# Altium footprint library LilyPad-Wearables.PCBLIB: 17 footprints (part 1 of 2)
Each footprint in its own frame and in the unit in brackets; x right, y up, seen from the top. Pads: shape width x height; smd on the part's side, far side on the other; paste and mask are expansions set on the pad; w line width, h text height; cw(c..) or ccw(c..) is an arc to the next point about the centre after c.
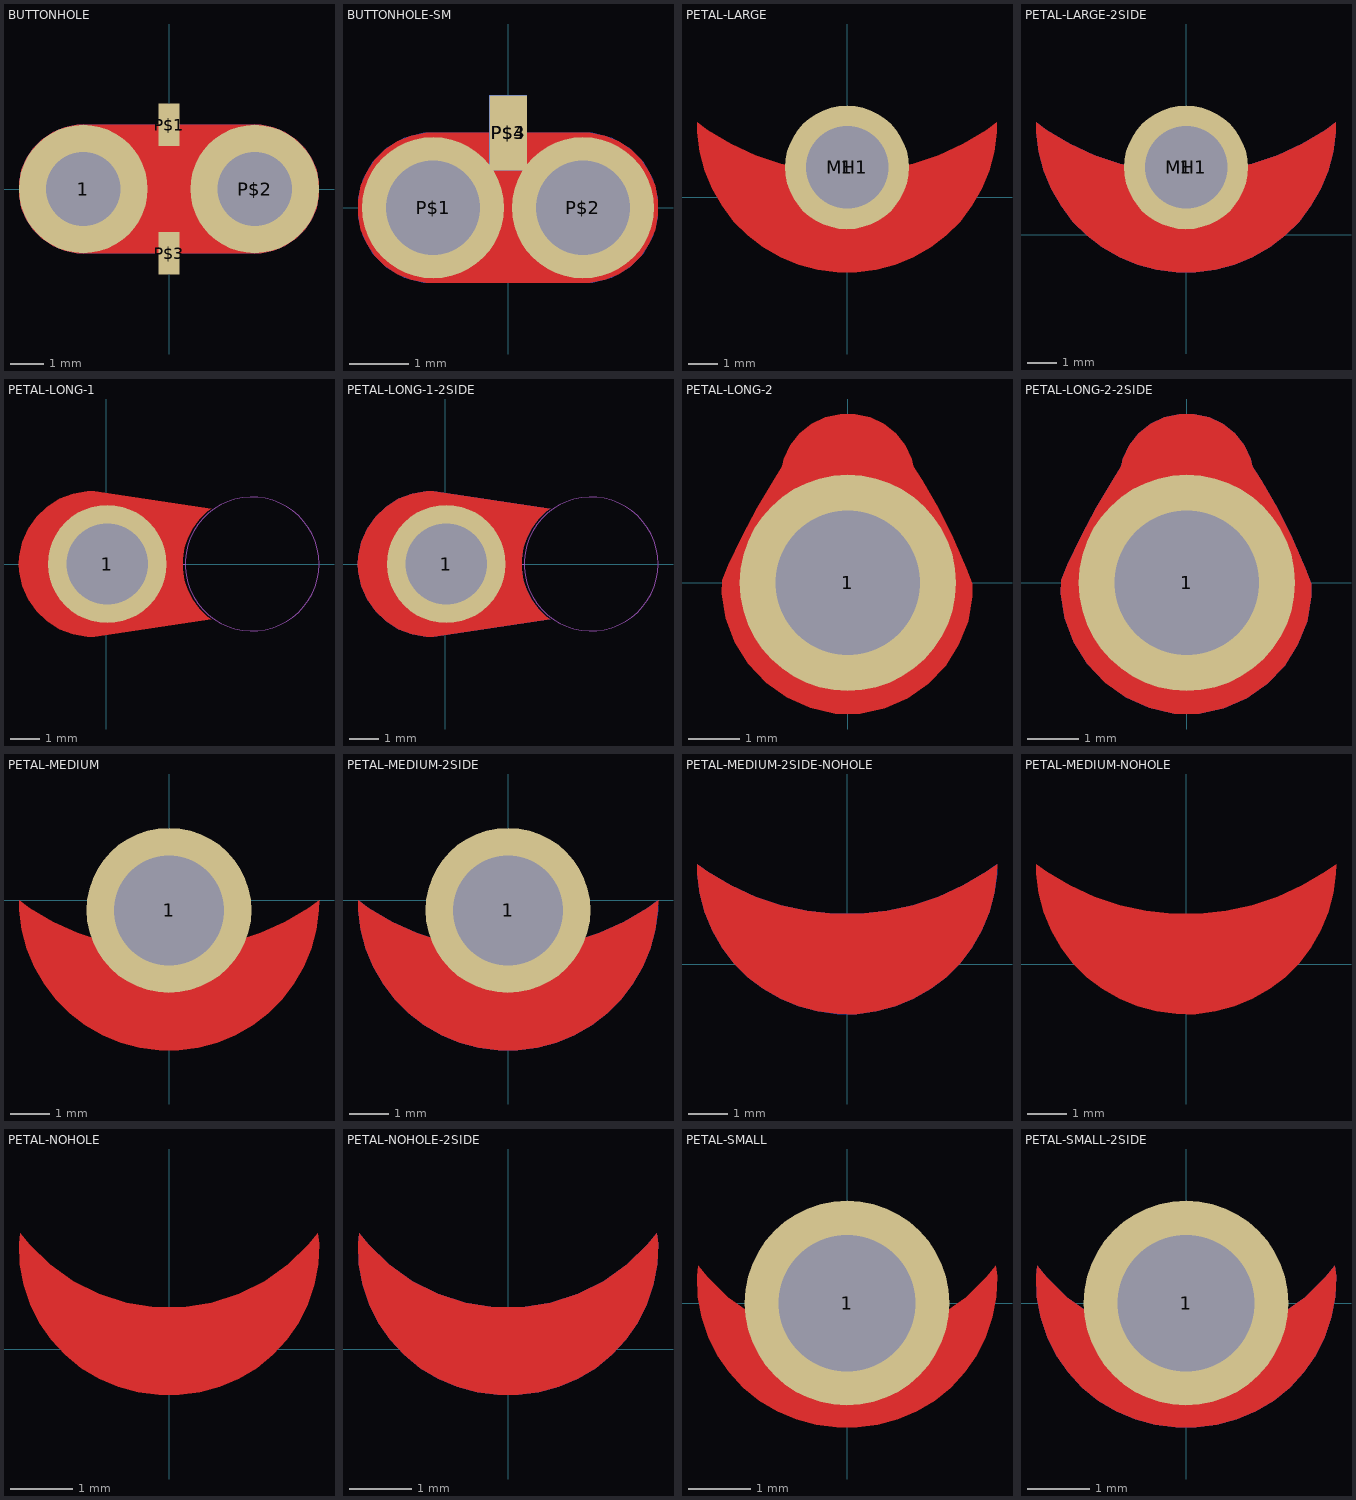
[diagram p0: the footprints below, top view; thin cyan lines are the x and y axes]

## BUTTONHOLE [mil]
pads (4):
  round 150 hole 86.61: 1(-100,0) P$2(100,0)
  rect 25x50 smd: P$1(0,75) P$3(0,-75)
Top:
  region: -100,75 100,75 107.39,75 121.88,72.12 135.53,66.46 147.81,58.26 158.26,47.81 166.46,35.53 172.12,21.88 175,7.39 175,-7.39 172.12,-21.88 166.46,-35.53 158.26,-47.81 147.81,-58.26 135.53,-66.46 121.88,-72.12 107.39,-75 100,-75 -100,-75 -107.39,-75 -121.88,-72.12 -135.53,-66.46 -147.81,-58.26 -158.26,-47.81 -166.46,-35.53 -172.12,-21.88 -175,-7.39 -175,7.39 -172.12,21.88 -166.46,35.53 -158.26,47.81 -147.81,58.26 -135.53,66.46 -121.88,72.12 -107.39,75 -100,75
Top keep-out:
  region: -100,50 -104.92,50 -114.58,48.08 -123.68,44.31 -131.87,38.84 -138.84,31.87 -144.31,23.68 -148.08,14.58 -150,4.92 -150,0 -150,-4.92 -148.08,-14.58 -144.31,-23.68 -138.84,-31.87 -131.87,-38.84 -123.68,-44.31 -114.58,-48.08 -104.92,-50 -100,-50 -95.08,-50 -85.42,-48.08 -76.32,-44.31 -68.13,-38.84 -61.16,-31.87 -55.69,-23.68 -51.92,-14.58 -50,-4.92 -50,0 -50,4.92 -51.92,14.58 -55.69,23.68 -61.16,31.87 -68.13,38.84 -76.32,44.31 -85.42,48.08 -95.08,50 -100,50
  region: 100,50 95.08,50 85.42,48.08 76.32,44.31 68.13,38.84 61.16,31.87 55.69,23.68 51.92,14.58 50,4.92 50,0 50,-4.92 51.92,-14.58 55.69,-23.68 61.16,-31.87 68.13,-38.84 76.32,-44.31 85.42,-48.08 95.08,-50 100,-50 104.92,-50 114.58,-48.08 123.68,-44.31 131.87,-38.84 138.84,-31.87 144.31,-23.68 148.08,-14.58 150,-4.92 150,0 150,4.92 148.08,14.58 144.31,23.68 138.84,31.87 131.87,38.84 123.68,44.31 114.58,48.08 104.92,50 100,50
Bottom:
  region: -100,75 100,75 107.39,75 121.88,72.12 135.53,66.46 147.81,58.26 158.26,47.81 166.46,35.53 172.12,21.88 175,7.39 175,-7.39 172.12,-21.88 166.46,-35.53 158.26,-47.81 147.81,-58.26 135.53,-66.46 121.88,-72.12 107.39,-75 100,-75 -100,-75 -107.39,-75 -121.88,-72.12 -135.53,-66.46 -147.81,-58.26 -158.26,-47.81 -166.46,-35.53 -172.12,-21.88 -175,-7.39 -175,7.39 -172.12,21.88 -166.46,35.53 -158.26,47.81 -147.81,58.26 -135.53,66.46 -121.88,72.12 -107.39,75 -100,75
Bottom keep-out:
  region: -100,50 -104.92,50 -114.58,48.08 -123.68,44.31 -131.87,38.84 -138.84,31.87 -144.31,23.68 -148.08,14.58 -150,4.92 -150,0 -150,-4.92 -148.08,-14.58 -144.31,-23.68 -138.84,-31.87 -131.87,-38.84 -123.68,-44.31 -114.58,-48.08 -104.92,-50 -100,-50 -95.08,-50 -85.42,-48.08 -76.32,-44.31 -68.13,-38.84 -61.16,-31.87 -55.69,-23.68 -51.92,-14.58 -50,-4.92 -50,0 -50,4.92 -51.92,14.58 -55.69,23.68 -61.16,31.87 -68.13,38.84 -76.32,44.31 -85.42,48.08 -95.08,50 -100,50
  region: 100,50 95.08,50 85.42,48.08 76.32,44.31 68.13,38.84 61.16,31.87 55.69,23.68 51.92,14.58 50,4.92 50,0 50,-4.92 51.92,-14.58 55.69,-23.68 61.16,-31.87 68.13,-38.84 76.32,-44.31 85.42,-48.08 95.08,-50 100,-50 104.92,-50 114.58,-48.08 123.68,-44.31 131.87,-38.84 138.84,-31.87 144.31,-23.68 148.08,-14.58 150,-4.92 150,0 150,4.92 148.08,14.58 144.31,23.68 138.84,31.87 131.87,38.84 123.68,44.31 114.58,48.08 104.92,50 100,50
Top Solder:
  region: -100,75 100,75 107.39,75 121.88,72.12 135.53,66.46 147.81,58.26 158.26,47.81 166.46,35.53 172.12,21.88 175,7.39 175,-7.39 172.12,-21.88 166.46,-35.53 158.26,-47.81 147.81,-58.26 135.53,-66.46 121.88,-72.12 107.39,-75 100,-75 -100,-75 -107.39,-75 -121.88,-72.12 -135.53,-66.46 -147.81,-58.26 -158.26,-47.81 -166.46,-35.53 -172.12,-21.88 -175,-7.39 -175,7.39 -172.12,21.88 -166.46,35.53 -158.26,47.81 -147.81,58.26 -135.53,66.46 -121.88,72.12 -107.39,75 -100,75
Bottom Solder:
  region: -100,75 100,75 107.39,75 121.88,72.12 135.53,66.46 147.81,58.26 158.26,47.81 166.46,35.53 172.12,21.88 175,7.39 175,-7.39 172.12,-21.88 166.46,-35.53 158.26,-47.81 147.81,-58.26 135.53,-66.46 121.88,-72.12 107.39,-75 100,-75 -100,-75 -107.39,-75 -121.88,-72.12 -135.53,-66.46 -147.81,-58.26 -158.26,-47.81 -166.46,-35.53 -172.12,-21.88 -175,-7.39 -175,7.39 -172.12,21.88 -166.46,35.53 -158.26,47.81 -147.81,58.26 -135.53,66.46 -121.88,72.12 -107.39,75 -100,75

## BUTTONHOLE-SM [mil]
pads (4):
  round 94.48 hole 62.99: P$1(-50,0) P$2(50,0)
  rect 25x50 smd: P$3(0,50)
  rect 25x50 smd far side: P$4(0,50)
Top:
  region: -50,50 50,50 54.92,50 64.58,48.08 73.68,44.31 81.87,38.84 88.84,31.87 94.31,23.68 98.08,14.58 100,4.92 100,0 100,-4.92 98.08,-14.58 94.31,-23.68 88.84,-31.87 81.87,-38.84 73.68,-44.31 64.58,-48.08 54.92,-50 50,-50 -50,-50 -54.92,-50 -64.58,-48.08 -73.68,-44.31 -81.87,-38.84 -88.84,-31.87 -94.31,-23.68 -98.08,-14.58 -100,-4.92 -100,0 -100,4.92 -98.08,14.58 -94.31,23.68 -88.84,31.87 -81.87,38.84 -73.68,44.31 -64.58,48.08 -54.92,50 -50,50
Top keep-out:
  region: -50,30 -52.95,30 -58.75,28.85 -64.21,26.59 -69.12,23.3 -73.3,19.12 -76.59,14.21 -78.85,8.75 -80,2.95 -80,0 -80,-2.95 -78.85,-8.75 -76.59,-14.21 -73.3,-19.12 -69.12,-23.3 -64.21,-26.59 -58.75,-28.85 -52.95,-30 -50,-30 -47.05,-30 -41.25,-28.85 -35.79,-26.59 -30.88,-23.3 -26.7,-19.12 -23.41,-14.21 -21.15,-8.75 -20,-2.95 -20,0 -20,2.95 -21.15,8.75 -23.41,14.21 -26.7,19.12 -30.88,23.3 -35.79,26.59 -41.25,28.85 -47.05,30 -50,30
  region: 50,30 47.05,30 41.25,28.85 35.79,26.59 30.88,23.3 26.7,19.12 23.41,14.21 21.15,8.75 20,2.95 20,0 20,-2.95 21.15,-8.75 23.41,-14.21 26.7,-19.12 30.88,-23.3 35.79,-26.59 41.25,-28.85 47.05,-30 50,-30 52.95,-30 58.75,-28.85 64.21,-26.59 69.12,-23.3 73.3,-19.12 76.59,-14.21 78.85,-8.75 80,-2.95 80,0 80,2.95 78.85,8.75 76.59,14.21 73.3,19.12 69.12,23.3 64.21,26.59 58.75,28.85 52.95,30 50,30
Bottom:
  region: -50,50 50,50 56.58,50 69.3,46.59 80.7,40.01 90.01,30.7 96.59,19.3 100,6.58 100,-6.58 96.59,-19.3 90.01,-30.7 80.7,-40.01 69.3,-46.59 56.58,-50 50,-50 -50,-50 -56.58,-50 -69.3,-46.59 -80.7,-40.01 -90.01,-30.7 -96.59,-19.3 -100,-6.58 -100,6.58 -96.59,19.3 -90.01,30.7 -80.7,40.01 -69.3,46.59 -56.58,50 -50,50
Bottom keep-out:
  region: -50,30 -52.95,30 -58.75,28.85 -64.21,26.59 -69.12,23.3 -73.3,19.12 -76.59,14.21 -78.85,8.75 -80,2.95 -80,0 -80,-2.95 -78.85,-8.75 -76.59,-14.21 -73.3,-19.12 -69.12,-23.3 -64.21,-26.59 -58.75,-28.85 -52.95,-30 -50,-30 -47.05,-30 -41.25,-28.85 -35.79,-26.59 -30.88,-23.3 -26.7,-19.12 -23.41,-14.21 -21.15,-8.75 -20,-2.95 -20,0 -20,2.95 -21.15,8.75 -23.41,14.21 -26.7,19.12 -30.88,23.3 -35.79,26.59 -41.25,28.85 -47.05,30 -50,30
  region: 50,30 47.05,30 41.25,28.85 35.79,26.59 30.88,23.3 26.7,19.12 23.41,14.21 21.15,8.75 20,2.95 20,0 20,-2.95 21.15,-8.75 23.41,-14.21 26.7,-19.12 30.88,-23.3 35.79,-26.59 41.25,-28.85 47.05,-30 50,-30 52.95,-30 58.75,-28.85 64.21,-26.59 69.12,-23.3 73.3,-19.12 76.59,-14.21 78.85,-8.75 80,-2.95 80,0 80,2.95 78.85,8.75 76.59,14.21 73.3,19.12 69.12,23.3 64.21,26.59 58.75,28.85 52.95,30 50,30
Top Solder:
  region: -50,50 50,50 56.58,50 69.3,46.59 80.7,40.01 90.01,30.7 96.59,19.3 100,6.58 100,-6.58 96.59,-19.3 90.01,-30.7 80.7,-40.01 69.3,-46.59 56.58,-50 50,-50 -50,-50 -56.58,-50 -69.3,-46.59 -80.7,-40.01 -90.01,-30.7 -96.59,-19.3 -100,-6.58 -100,6.58 -96.59,19.3 -90.01,30.7 -80.7,40.01 -69.3,46.59 -56.58,50 -50,50
Bottom Solder:
  region: -50,50 50,50 56.58,50 69.3,46.59 80.7,40.01 90.01,30.7 96.59,19.3 100,6.58 100,-6.58 96.59,-19.3 90.01,-30.7 80.7,-40.01 69.3,-46.59 56.58,-50 50,-50 -50,-50 -56.58,-50 -69.3,-46.59 -80.7,-40.01 -90.01,-30.7 -96.59,-19.3 -100,-6.58 -100,6.58 -96.59,19.3 -90.01,30.7 -80.7,40.01 -69.3,46.59 -56.58,50 -50,50

## PETAL-LARGE [mil]
pads (2):
  round 165 hole 110: 1(0,40)
  round 59.06 hole 59.06 unplated: MH1(0,40)
Top:
  region: 0,-100 13.11,-100 39.1,-96.58 64.43,-89.79 88.65,-79.76 111.35,-66.65 132.15,-50.69 150.69,-32.15 166.65,-11.35 179.76,11.35 189.79,35.57 196.58,60.9 200,86.89 200,100 185.42,89.66 154.7,71.41 122.21,56.54 88.31,45.25 53.39,37.64 17.87,33.81 -17.87,33.81 -53.39,37.64 -88.31,45.25 -122.21,56.54 -154.7,71.41 -185.42,89.66 -200,100 -200,86.89 -196.58,60.9 -189.79,35.57 -179.76,11.35 -166.65,-11.35 -150.69,-32.15 -132.15,-50.69 -111.35,-66.65 -88.65,-79.76 -64.43,-89.79 -39.1,-96.58 -13.11,-100 0,-100
  lines w60: 0,-50 0,50
Top Solder:
  region: 0,-100 13.11,-100 39.1,-96.58 64.43,-89.79 88.65,-79.76 111.35,-66.65 132.15,-50.69 150.69,-32.15 166.65,-11.35 179.76,11.35 189.79,35.57 196.58,60.9 200,86.89 200,100 185.42,89.66 154.7,71.41 122.21,56.54 88.31,45.25 53.39,37.64 17.87,33.81 -17.87,33.81 -53.39,37.64 -88.31,45.25 -122.21,56.54 -154.7,71.41 -185.42,89.66 -200,100 -200,86.89 -196.58,60.9 -189.79,35.57 -179.76,11.35 -166.65,-11.35 -150.69,-32.15 -132.15,-50.69 -111.35,-66.65 -88.65,-79.76 -64.43,-89.79 -39.1,-96.58 -13.11,-100 0,-100

## PETAL-LARGE-2SIDE [mil]
pads (2):
  round 165 hole 110: 1(0,90)
  round 59.06 hole 59.06 unplated: MH1(0,90)
Top:
  region: 0,-50 13.11,-50 39.1,-46.58 64.43,-39.79 88.65,-29.76 111.35,-16.65 132.15,-0.69 150.69,17.85 166.65,38.65 179.76,61.35 189.79,85.57 196.58,110.9 200,136.89 200,150 185.42,139.66 154.7,121.41 122.21,106.54 88.31,95.25 53.39,87.64 17.87,83.81 -17.87,83.81 -53.39,87.64 -88.31,95.25 -122.21,106.54 -154.7,121.41 -185.42,139.66 -200,150 -200,136.89 -196.58,110.9 -189.79,85.57 -179.76,61.35 -166.65,38.65 -150.69,17.85 -132.15,-0.69 -111.35,-16.65 -88.65,-29.76 -64.43,-39.79 -39.1,-46.58 -13.11,-50 0,-50
  lines w60: 0,0 0,100
Bottom:
  region: 0,-50 -13.11,-50 -39.1,-46.58 -64.43,-39.79 -88.65,-29.76 -111.35,-16.65 -132.15,-0.69 -150.69,17.85 -166.65,38.65 -179.76,61.35 -189.79,85.57 -196.58,110.9 -200,136.89 -200,150 -185.42,139.66 -154.7,121.41 -122.21,106.54 -88.31,95.25 -53.39,87.64 -17.87,83.81 17.87,83.81 53.39,87.64 88.31,95.25 122.21,106.54 154.7,121.41 185.42,139.66 200,150 200,136.89 196.58,110.9 189.79,85.57 179.76,61.35 166.65,38.65 150.69,17.85 132.15,-0.69 111.35,-16.65 88.65,-29.76 64.43,-39.79 39.1,-46.58 13.11,-50 0,-50
Top Solder:
  region: 0,-50 13.11,-50 39.1,-46.58 64.43,-39.79 88.65,-29.76 111.35,-16.65 132.15,-0.69 150.69,17.85 166.65,38.65 179.76,61.35 189.79,85.57 196.58,110.9 200,136.89 200,150 185.42,139.66 154.7,121.41 122.21,106.54 88.31,95.25 53.39,87.64 17.87,83.81 -17.87,83.81 -53.39,87.64 -88.31,95.25 -122.21,106.54 -154.7,121.41 -185.42,139.66 -200,150 -200,136.89 -196.58,110.9 -189.79,85.57 -179.76,61.35 -166.65,38.65 -150.69,17.85 -132.15,-0.69 -111.35,-16.65 -88.65,-29.76 -64.43,-39.79 -39.1,-46.58 -13.11,-50 0,-50
Bottom Solder:
  region: 0,-50 -13.11,-50 -39.1,-46.58 -64.43,-39.79 -88.65,-29.76 -111.35,-16.65 -132.15,-0.69 -150.69,17.85 -166.65,38.65 -179.76,61.35 -189.79,85.57 -196.58,110.9 -200,136.89 -200,150 -185.42,139.66 -154.7,121.41 -122.21,106.54 -88.31,95.25 -53.39,87.64 -17.87,83.81 17.87,83.81 53.39,87.64 88.31,95.25 122.21,106.54 154.7,121.41 185.42,139.66 200,150 200,136.89 196.58,110.9 189.79,85.57 179.76,61.35 166.65,38.65 150.69,17.85 132.15,-0.69 111.35,-16.65 88.65,-29.76 64.43,-39.79 39.1,-46.58 13.11,-50 0,-50

## PETAL-LONG-1 [mil]
pads (1):
  round 160 hole 110: 1(1.18,0)
Top:
  region: 141.73,-74.8 135.92,-70.38 125.44,-60.21 116.71,-48.51 109.97,-35.56 105.37,-21.71 103.05,-7.3 103.05,7.3 105.37,21.71 109.97,35.56 116.71,48.51 125.44,60.21 135.92,70.38 141.73,74.8 -15.75,98.43 -25.64,98.62 -45.11,95.14 -63.53,87.93 -80.19,77.27 -94.44,63.56 -105.75,47.33 -113.68,29.21 -117.92,9.89 -118.11,0 -117.92,-9.89 -113.68,-29.21 -105.75,-47.33 -94.44,-63.56 -80.18,-77.27 -63.53,-87.93 -45.11,-95.14 -25.64,-98.62 -15.75,-98.43
Top Solder:
  region: 141.73,-74.8 135.92,-70.38 125.44,-60.21 116.71,-48.51 109.97,-35.56 105.37,-21.71 103.05,-7.3 103.05,7.3 105.37,21.71 109.97,35.56 116.71,48.51 125.44,60.21 135.92,70.38 141.73,74.8 -15.75,98.43 -25.64,98.62 -45.11,95.14 -63.53,87.93 -80.19,77.27 -94.44,63.56 -105.75,47.33 -113.68,29.21 -117.92,9.89 -118.11,0 -117.92,-9.89 -113.68,-29.21 -105.75,-47.33 -94.44,-63.56 -80.18,-77.27 -63.53,-87.93 -45.11,-95.14 -25.64,-98.62 -15.75,-98.43
Reference:
  circle w0.39: c196.85,0 r90.55
  lines w0.39: 0,0 106.3,0

## PETAL-LONG-1-2SIDE [mil]
pads (1):
  round 160 hole 110: 1(1.18,0)
Top:
  region: 141.73,-74.8 135.92,-70.38 125.44,-60.21 116.71,-48.51 109.97,-35.56 105.37,-21.71 103.05,-7.3 103.05,7.3 105.37,21.71 109.97,35.56 116.71,48.51 125.44,60.21 135.92,70.38 141.73,74.8 -15.75,98.43 -25.64,98.62 -45.11,95.14 -63.53,87.93 -80.19,77.27 -94.44,63.56 -105.75,47.33 -113.68,29.21 -117.92,9.89 -118.11,0 -117.92,-9.89 -113.68,-29.21 -105.75,-47.33 -94.44,-63.56 -80.18,-77.27 -63.53,-87.93 -45.11,-95.14 -25.64,-98.62 -15.75,-98.43
Bottom:
  region: 141.73,74.8 135.92,70.38 125.44,60.21 116.71,48.51 109.97,35.56 105.37,21.71 103.05,7.3 103.05,-7.3 105.37,-21.71 109.97,-35.56 116.71,-48.51 125.44,-60.21 135.92,-70.38 141.73,-74.8 -15.75,-98.43 -25.64,-98.62 -45.11,-95.14 -63.53,-87.93 -80.19,-77.27 -94.44,-63.56 -105.75,-47.33 -113.68,-29.21 -117.92,-9.89 -118.11,0 -117.92,9.89 -113.68,29.21 -105.75,47.33 -94.44,63.56 -80.18,77.27 -63.53,87.93 -45.11,95.14 -25.64,98.62 -15.75,98.43
Top Solder:
  region: 141.73,-74.8 135.92,-70.38 125.44,-60.21 116.71,-48.51 109.97,-35.56 105.37,-21.71 103.05,-7.3 103.05,7.3 105.37,21.71 109.97,35.56 116.71,48.51 125.44,60.21 135.92,70.38 141.73,74.8 -15.75,98.43 -25.64,98.62 -45.11,95.14 -63.53,87.93 -80.19,77.27 -94.44,63.56 -105.75,47.33 -113.68,29.21 -117.92,9.89 -118.11,0 -117.92,-9.89 -113.68,-29.21 -105.75,-47.33 -94.44,-63.56 -80.18,-77.27 -63.53,-87.93 -45.11,-95.14 -25.64,-98.62 -15.75,-98.43
Bottom Solder:
  region: 141.73,74.8 135.92,70.38 125.44,60.21 116.71,48.51 109.97,35.56 105.37,21.71 103.05,7.3 103.05,-7.3 105.37,-21.71 109.97,-35.56 116.71,-48.51 125.44,-60.21 135.92,-70.38 141.73,-74.8 -15.75,-98.43 -25.64,-98.62 -45.11,-95.14 -63.53,-87.93 -80.19,-77.27 -94.44,-63.56 -105.75,-47.33 -113.68,-29.21 -117.92,-9.89 -118.11,0 -117.92,9.89 -113.68,29.21 -105.75,47.33 -94.44,63.56 -80.18,77.27 -63.53,87.93 -45.11,95.14 -25.64,98.62 -15.75,98.43
Reference:
  circle w0.39: c196.85,0 r90.55
  lines w0.39: 0,0 106.3,0

## PETAL-LONG-2 [mil]
pads (1):
  round 165 hole 110: 1(0,0)
Top:
  region: -50,88.78 -56.62,78.42 -68.99,57.18 -80.48,35.45 -91.07,13.27 -95.91,1.97 -96.21,-7.77 -92.99,-27.01 -86.08,-45.24 -75.75,-61.78 -62.39,-75.98 -46.52,-87.3 -28.74,-95.31 -9.74,-99.7 0,-100 9.55,-99.78 28.2,-95.62 45.67,-87.9 61.31,-76.92 74.5,-63.1 84.75,-46.97 91.65,-29.16 94.94,-10.34 94.72,-0.79 90.39,10.98 80.44,34.01 69.24,56.46 56.81,78.25 50,88.78 48.73,94.43 43.73,104.87 36.54,113.93 27.5,121.17 17.07,126.2 5.79,128.78 -5.79,128.78 -17.07,126.2 -27.5,121.17 -36.54,113.93 -43.73,104.87 -48.73,94.43 -50,88.78
Top Solder:
  region: -50,88.78 -56.62,78.42 -68.99,57.18 -80.48,35.45 -91.07,13.27 -95.91,1.97 -96.21,-7.77 -92.99,-27.01 -86.08,-45.24 -75.75,-61.78 -62.39,-75.98 -46.52,-87.3 -28.74,-95.31 -9.74,-99.7 0,-100 9.55,-99.78 28.2,-95.62 45.67,-87.9 61.31,-76.92 74.5,-63.1 84.75,-46.97 91.65,-29.16 94.94,-10.34 94.72,-0.79 90.39,10.98 80.44,34.01 69.24,56.46 56.81,78.25 50,88.78 48.73,94.43 43.73,104.87 36.54,113.93 27.5,121.17 17.07,126.2 5.79,128.78 -5.79,128.78 -17.07,126.2 -27.5,121.17 -36.54,113.93 -43.73,104.87 -48.73,94.43 -50,88.78

## PETAL-LONG-2-2SIDE [mil]
pads (1):
  round 165 hole 110: 1(0,0)
Top:
  region: -50,88.78 -56.62,78.42 -68.99,57.18 -80.48,35.45 -91.07,13.27 -95.91,1.97 -96.21,-7.77 -92.99,-27.01 -86.08,-45.24 -75.75,-61.78 -62.39,-75.98 -46.52,-87.3 -28.74,-95.31 -9.74,-99.7 0,-100 9.55,-99.78 28.2,-95.62 45.67,-87.9 61.31,-76.92 74.5,-63.1 84.75,-46.97 91.65,-29.16 94.94,-10.34 94.72,-0.79 90.39,10.98 80.44,34.01 69.24,56.46 56.81,78.25 50,88.78 48.73,94.43 43.73,104.87 36.54,113.93 27.5,121.17 17.07,126.2 5.79,128.78 -5.79,128.78 -17.07,126.2 -27.5,121.17 -36.54,113.93 -43.73,104.87 -48.73,94.43 -50,88.78
Bottom:
  region: 50,88.78 56.81,78.25 69.24,56.46 80.44,34.01 90.39,10.98 94.72,-0.79 94.94,-10.34 91.65,-29.16 84.75,-46.97 74.5,-63.1 61.31,-76.92 45.67,-87.9 28.2,-95.62 9.55,-99.78 0,-100 -9.74,-99.7 -28.74,-95.31 -46.52,-87.3 -62.39,-75.98 -75.75,-61.77 -86.08,-45.24 -92.99,-27.01 -96.21,-7.77 -95.91,1.97 -91.07,13.27 -80.48,35.45 -68.99,57.18 -56.62,78.42 -50,88.78 -48.73,94.43 -43.73,104.87 -36.54,113.93 -27.5,121.17 -17.07,126.2 -5.79,128.78 5.79,128.78 17.07,126.2 27.5,121.17 36.54,113.93 43.73,104.87 48.73,94.43 50,88.78
Top Solder:
  region: -50,88.78 -56.62,78.42 -68.99,57.18 -80.48,35.45 -91.07,13.27 -95.91,1.97 -96.21,-7.77 -92.99,-27.01 -86.08,-45.24 -75.75,-61.78 -62.39,-75.98 -46.52,-87.3 -28.74,-95.31 -9.74,-99.7 0,-100 9.55,-99.78 28.2,-95.62 45.67,-87.9 61.31,-76.92 74.5,-63.1 84.75,-46.97 91.65,-29.16 94.94,-10.34 94.72,-0.79 90.39,10.98 80.44,34.01 69.24,56.46 56.81,78.25 50,88.78 48.73,94.43 43.73,104.87 36.54,113.93 27.5,121.17 17.07,126.2 5.79,128.78 -5.79,128.78 -17.07,126.2 -27.5,121.17 -36.54,113.93 -43.73,104.87 -48.73,94.43 -50,88.78
Bottom Solder:
  region: 50,88.78 56.81,78.25 69.24,56.46 80.44,34.01 90.39,10.98 94.72,-0.79 94.94,-10.34 91.65,-29.16 84.75,-46.97 74.5,-63.1 61.31,-76.92 45.67,-87.9 28.2,-95.62 9.55,-99.78 0,-100 -9.74,-99.7 -28.74,-95.31 -46.52,-87.3 -62.39,-75.98 -75.75,-61.77 -86.08,-45.24 -92.99,-27.01 -96.21,-7.77 -95.91,1.97 -89.4,12.39 -77.03,33.63 -65.54,55.35 -54.95,77.53 -50,88.78 -48.73,94.43 -43.73,104.87 -36.54,113.93 -27.5,121.17 -17.07,126.2 -5.79,128.78 5.79,128.78 17.07,126.2 27.5,121.17 36.54,113.93 43.73,104.87 48.73,94.43 50,88.78

## PETAL-MEDIUM [mil]
pads (1):
  round 165 hole 110: 1(0,-10)
Top:
  region: 0,-150 9.83,-150 29.33,-147.43 48.32,-142.34 66.49,-134.82 83.51,-124.99 99.11,-113.02 113.02,-99.11 124.99,-83.51 134.82,-66.49 142.34,-48.32 147.43,-29.33 150,-9.83 150,0 139.06,-7.75 116.03,-21.44 91.66,-32.59 66.23,-41.07 40.05,-46.77 13.4,-49.64 -13.4,-49.64 -40.05,-46.77 -66.23,-41.07 -91.66,-32.59 -116.03,-21.44 -139.06,-7.75 -150,0 -150,-9.83 -147.43,-29.33 -142.34,-48.32 -134.82,-66.49 -124.99,-83.51 -113.02,-99.11 -99.11,-113.02 -83.51,-124.99 -66.49,-134.82 -48.32,-142.34 -29.33,-147.43 -9.83,-150 0,-150
Top Solder:
  region: 0,-150 9.83,-150 29.33,-147.43 48.32,-142.34 66.49,-134.82 83.51,-124.99 99.11,-113.02 113.02,-99.11 124.99,-83.51 134.82,-66.49 142.34,-48.32 147.43,-29.33 150,-9.83 150,0 139.06,-7.75 116.03,-21.44 91.66,-32.59 66.23,-41.07 40.05,-46.77 13.4,-49.64 -13.4,-49.64 -40.05,-46.77 -66.23,-41.07 -91.66,-32.59 -116.03,-21.44 -139.06,-7.75 -150,0 -150,-9.83 -147.43,-29.33 -142.34,-48.32 -134.82,-66.49 -124.99,-83.51 -113.02,-99.11 -99.11,-113.02 -83.51,-124.99 -66.49,-134.82 -48.32,-142.34 -29.33,-147.43 -9.83,-150 0,-150

## PETAL-MEDIUM-2SIDE [mil]
pads (1):
  round 165 hole 110: 1(0,-10)
Top:
  region: 0,-150 9.83,-150 29.33,-147.43 48.32,-142.34 66.49,-134.82 83.51,-124.99 99.11,-113.02 113.02,-99.11 124.99,-83.51 134.82,-66.49 142.34,-48.32 147.43,-29.33 150,-9.83 150,0 139.06,-7.75 116.03,-21.44 91.66,-32.59 66.23,-41.07 40.05,-46.77 13.4,-49.64 -13.4,-49.64 -40.05,-46.77 -66.23,-41.07 -91.66,-32.59 -116.03,-21.44 -139.06,-7.75 -150,0 -150,-9.83 -147.43,-29.33 -142.34,-48.32 -134.82,-66.49 -124.99,-83.51 -113.02,-99.11 -99.11,-113.02 -83.51,-124.99 -66.49,-134.82 -48.32,-142.34 -29.33,-147.43 -9.83,-150 0,-150
Bottom:
  region: 0,-150 -9.83,-150 -29.33,-147.43 -48.32,-142.34 -66.49,-134.82 -83.51,-124.99 -99.11,-113.02 -113.02,-99.11 -124.99,-83.51 -134.82,-66.49 -142.34,-48.32 -147.43,-29.33 -150,-9.83 -150,0 -139.06,-7.75 -116.03,-21.44 -91.66,-32.59 -66.23,-41.07 -40.05,-46.77 -13.4,-49.64 13.4,-49.64 40.05,-46.77 66.23,-41.07 91.66,-32.59 116.03,-21.44 139.06,-7.75 150,0 150,-9.83 147.43,-29.33 142.34,-48.32 134.82,-66.49 124.99,-83.51 113.02,-99.11 99.11,-113.02 83.51,-124.99 66.49,-134.82 48.32,-142.34 29.33,-147.43 9.83,-150 0,-150
Top Solder:
  region: 0,-150 9.83,-150 29.33,-147.43 48.32,-142.34 66.49,-134.82 83.51,-124.99 99.11,-113.02 113.02,-99.11 124.99,-83.51 134.82,-66.49 142.34,-48.32 147.43,-29.33 150,-9.83 150,0 139.06,-7.75 116.03,-21.44 91.66,-32.59 66.23,-41.07 40.05,-46.77 13.4,-49.64 -13.4,-49.64 -40.05,-46.77 -66.23,-41.07 -91.66,-32.59 -116.03,-21.44 -139.06,-7.75 -150,0 -150,-9.83 -147.43,-29.33 -142.34,-48.32 -134.82,-66.49 -124.99,-83.51 -113.02,-99.11 -99.11,-113.02 -83.51,-124.99 -66.49,-134.82 -48.32,-142.34 -29.33,-147.43 -9.83,-150 0,-150
Bottom Solder:
  region: 0,-150 -9.83,-150 -29.33,-147.43 -48.32,-142.34 -66.49,-134.82 -83.51,-124.99 -99.11,-113.02 -113.02,-99.11 -124.99,-83.51 -134.82,-66.49 -142.34,-48.32 -147.43,-29.33 -150,-9.83 -150,0 -139.06,-7.75 -116.03,-21.44 -91.66,-32.59 -66.23,-41.07 -40.05,-46.77 -13.4,-49.64 13.4,-49.64 40.05,-46.77 66.23,-41.07 91.66,-32.59 116.03,-21.44 139.06,-7.75 150,0 150,-9.83 147.43,-29.33 142.34,-48.32 134.82,-66.49 124.99,-83.51 113.02,-99.11 99.11,-113.02 83.51,-124.99 66.49,-134.82 48.32,-142.34 29.33,-147.43 9.83,-150 0,-150

## PETAL-MEDIUM-2SIDE-NOHOLE [mil]
Top:
  region: 0,-50 9.83,-50 29.33,-47.43 48.32,-42.34 66.49,-34.82 83.51,-24.99 99.11,-13.02 113.02,0.89 124.99,16.49 134.82,33.51 142.34,51.68 147.43,70.67 150,90.17 150,100 139.06,92.25 116.03,78.56 91.66,67.41 66.23,58.93 40.05,53.23 13.4,50.36 -13.4,50.36 -40.05,53.23 -66.23,58.93 -91.66,67.41 -116.03,78.56 -139.06,92.25 -150,100 -150,90.17 -147.43,70.67 -142.34,51.68 -134.82,33.51 -124.99,16.49 -113.02,0.89 -99.11,-13.02 -83.51,-24.99 -66.49,-34.82 -48.32,-42.34 -29.33,-47.43 -9.83,-50 0,-50
Bottom:
  region: 0,-50 -9.83,-50 -29.33,-47.43 -48.32,-42.34 -66.49,-34.82 -83.51,-24.99 -99.11,-13.02 -113.02,0.89 -124.99,16.49 -134.82,33.51 -142.34,51.68 -147.43,70.67 -150,90.17 -150,100 -139.06,92.25 -116.03,78.56 -91.66,67.41 -66.23,58.93 -40.05,53.23 -13.4,50.36 13.4,50.36 40.05,53.23 66.23,58.93 91.66,67.41 116.03,78.56 139.06,92.25 150,100 150,90.17 147.43,70.67 142.34,51.68 134.82,33.51 124.99,16.49 113.02,0.89 99.11,-13.02 83.51,-24.99 66.49,-34.82 48.32,-42.34 29.33,-47.43 9.83,-50 0,-50
Top Solder:
  region: 0,-50 9.83,-50 29.33,-47.43 48.32,-42.34 66.49,-34.82 83.51,-24.99 99.11,-13.02 113.02,0.89 124.99,16.49 134.82,33.51 142.34,51.68 147.43,70.67 150,90.17 150,100 139.06,92.25 116.03,78.56 91.66,67.41 66.23,58.93 40.05,53.23 13.4,50.36 -13.4,50.36 -40.05,53.23 -66.23,58.93 -91.66,67.41 -116.03,78.56 -139.06,92.25 -150,100 -150,90.17 -147.43,70.67 -142.34,51.68 -134.82,33.51 -124.99,16.49 -113.02,0.89 -99.11,-13.02 -83.51,-24.99 -66.49,-34.82 -48.32,-42.34 -29.33,-47.43 -9.83,-50 0,-50
Bottom Solder:
  region: 0,-50 -9.83,-50 -29.33,-47.43 -48.32,-42.34 -66.49,-34.82 -83.51,-24.99 -99.11,-13.02 -113.02,0.89 -124.99,16.49 -134.82,33.51 -142.34,51.68 -147.43,70.67 -150,90.17 -150,100 -139.06,92.25 -116.03,78.56 -91.66,67.41 -66.23,58.93 -40.05,53.23 -13.4,50.36 13.4,50.36 40.05,53.23 66.23,58.93 91.66,67.41 116.03,78.56 139.06,92.25 150,100 150,90.17 147.43,70.67 142.34,51.68 134.82,33.51 124.99,16.49 113.02,0.89 99.11,-13.02 83.51,-24.99 66.49,-34.82 48.32,-42.34 29.33,-47.43 9.83,-50 0,-50

## PETAL-MEDIUM-NOHOLE [mil]
Top:
  region: 0,-50 9.83,-50 29.33,-47.43 48.32,-42.34 66.49,-34.82 83.51,-24.99 99.11,-13.02 113.02,0.89 124.99,16.49 134.82,33.51 142.34,51.68 147.43,70.67 150,90.17 150,100 139.06,92.25 116.03,78.56 91.66,67.41 66.23,58.93 40.05,53.23 13.4,50.36 -13.4,50.36 -40.05,53.23 -66.23,58.93 -91.66,67.41 -116.03,78.56 -139.06,92.25 -150,100 -150,90.17 -147.43,70.67 -142.34,51.68 -134.82,33.51 -124.99,16.49 -113.02,0.89 -99.11,-13.02 -83.51,-24.99 -66.49,-34.82 -48.32,-42.34 -29.33,-47.43 -9.83,-50 0,-50
Top Solder:
  region: 0,-50 9.83,-50 29.33,-47.43 48.32,-42.34 66.49,-34.82 83.51,-24.99 99.11,-13.02 113.02,0.89 124.99,16.49 134.82,33.51 142.34,51.68 147.43,70.67 150,90.17 150,100 139.06,92.25 116.03,78.56 91.66,67.41 66.23,58.93 40.05,53.23 13.4,50.36 -13.4,50.36 -40.05,53.23 -66.23,58.93 -91.66,67.41 -116.03,78.56 -139.06,92.25 -150,100 -150,90.17 -147.43,70.67 -142.34,51.68 -134.82,33.51 -124.99,16.49 -113.02,0.89 -99.11,-13.02 -83.51,-24.99 -66.49,-34.82 -48.32,-42.34 -29.33,-47.43 -9.83,-50 0,-50

## PETAL-NOHOLE [mil]
Top:
  region: -94.49,73.62 -95.14,67.09 -94.59,53.96 -92.2,41.05 -88.03,28.6 -82.15,16.85 -74.68,6.05 -65.77,-3.6 -55.6,-11.91 -44.36,-18.7 -32.28,-23.86 -19.6,-27.27 -6.57,-28.86 0,-28.74 6.57,-28.86 19.6,-27.27 32.28,-23.86 44.36,-18.7 55.6,-11.91 65.77,-3.6 74.68,6.05 82.15,16.85 88.03,28.6 92.2,41.05 94.59,53.96 95.14,67.09 94.49,73.62 88.74,66.54 75.68,53.81 60.82,43.24 44.51,35.08 27.14,29.53 9.12,26.73 -9.12,26.73 -27.14,29.53 -44.51,35.08 -60.82,43.24 -75.68,53.81 -88.74,66.54 -94.49,73.62
Top Solder:
  region: -94.49,73.62 -95.14,67.09 -94.59,53.96 -92.2,41.05 -88.03,28.6 -82.15,16.85 -74.68,6.05 -65.77,-3.6 -55.6,-11.91 -44.36,-18.7 -32.28,-23.86 -19.6,-27.27 -6.57,-28.86 0,-28.74 6.57,-28.86 19.6,-27.27 32.28,-23.86 44.36,-18.7 55.6,-11.91 65.77,-3.6 74.68,6.05 82.15,16.85 88.03,28.6 92.2,41.05 94.59,53.96 95.14,67.09 94.49,73.62 88.74,66.54 75.68,53.81 60.82,43.24 44.51,35.08 27.14,29.53 9.12,26.73 -9.12,26.73 -27.14,29.53 -44.51,35.08 -60.82,43.24 -75.68,53.81 -88.74,66.54 -94.49,73.62

## PETAL-NOHOLE-2SIDE [mil]
Top:
  region: -94.49,73.62 -95.14,67.09 -94.59,53.96 -92.2,41.05 -88.03,28.6 -82.15,16.85 -74.68,6.05 -65.77,-3.6 -55.6,-11.91 -44.36,-18.7 -32.28,-23.86 -19.6,-27.27 -6.57,-28.86 0,-28.74 6.57,-28.86 19.6,-27.27 32.28,-23.86 44.36,-18.7 55.6,-11.91 65.77,-3.6 74.68,6.05 82.15,16.85 88.03,28.6 92.2,41.05 94.59,53.96 95.14,67.09 94.49,73.62 88.74,66.54 75.68,53.81 60.82,43.24 44.51,35.08 27.14,29.53 9.12,26.73 -9.12,26.73 -27.14,29.53 -44.51,35.08 -60.82,43.24 -75.68,53.81 -88.74,66.54 -94.49,73.62
Bottom:
  region: 94.49,73.62 95.14,67.09 94.59,53.96 92.2,41.05 88.03,28.6 82.15,16.85 74.68,6.05 65.77,-3.6 55.6,-11.91 44.36,-18.7 32.28,-23.86 19.6,-27.27 6.57,-28.86 0,-28.74 -6.57,-28.86 -19.6,-27.27 -32.28,-23.86 -44.36,-18.7 -55.6,-11.91 -65.77,-3.6 -74.68,6.05 -82.15,16.85 -88.03,28.6 -92.2,41.05 -94.59,53.96 -95.14,67.09 -94.49,73.62 -88.74,66.54 -75.68,53.81 -60.82,43.24 -44.51,35.08 -27.14,29.53 -9.12,26.73 9.12,26.73 27.14,29.53 44.51,35.08 60.82,43.24 75.68,53.81 88.74,66.54 94.49,73.62
Top Solder:
  region: -94.49,73.62 -95.14,67.09 -94.59,53.96 -92.2,41.05 -88.03,28.6 -82.15,16.85 -74.68,6.05 -65.77,-3.6 -55.6,-11.91 -44.36,-18.7 -32.28,-23.86 -19.6,-27.27 -6.57,-28.86 0,-28.74 6.57,-28.86 19.6,-27.27 32.28,-23.86 44.36,-18.7 55.6,-11.91 65.77,-3.6 74.68,6.05 82.15,16.85 88.03,28.6 92.2,41.05 94.59,53.96 95.14,67.09 94.49,73.62 88.74,66.54 75.68,53.81 60.82,43.24 44.51,35.08 27.14,29.53 9.12,26.73 -9.12,26.73 -27.14,29.53 -44.51,35.08 -60.82,43.24 -75.68,53.81 -88.74,66.54 -94.49,73.62
Bottom Solder:
  region: 94.49,73.62 95.14,67.09 94.59,53.96 92.2,41.05 88.03,28.6 82.15,16.85 74.68,6.05 65.77,-3.6 55.6,-11.91 44.36,-18.7 32.28,-23.86 19.6,-27.27 6.57,-28.86 0,-28.74 -6.57,-28.86 -19.6,-27.27 -32.28,-23.86 -44.36,-18.7 -55.6,-11.91 -65.77,-3.6 -74.68,6.05 -82.15,16.85 -88.03,28.6 -92.2,41.05 -94.59,53.96 -95.14,67.09 -94.49,73.62 -88.74,66.54 -75.68,53.81 -60.82,43.24 -44.51,35.08 -27.14,29.53 -9.12,26.73 9.12,26.73 27.14,29.53 44.51,35.08 60.82,43.24 75.68,53.81 88.74,66.54 94.49,73.62

## PETAL-SMALL [mil]
pads (1):
  round 129.91 hole 86.61: 1(0,0)
Top:
  region: -94.49,23.62 -95.14,17.09 -94.59,3.96 -92.2,-8.95 -88.03,-21.4 -82.15,-33.15 -74.68,-43.95 -65.77,-53.6 -55.6,-61.91 -44.36,-68.7 -32.28,-73.86 -19.6,-77.27 -6.57,-78.86 0,-78.74 6.57,-78.86 19.6,-77.27 32.28,-73.86 44.36,-68.7 55.6,-61.91 65.77,-53.6 74.68,-43.95 82.15,-33.15 88.03,-21.4 92.2,-8.95 94.59,3.96 95.14,17.09 94.49,23.62 88.74,16.54 75.68,3.81 60.82,-6.76 44.51,-14.92 27.14,-20.47 9.12,-23.27 -9.12,-23.27 -27.14,-20.47 -44.51,-14.92 -60.82,-6.76 -75.68,3.81 -88.74,16.54 -94.49,23.62
Top Solder:
  region: -94.49,23.62 -95.14,17.09 -94.59,3.96 -92.2,-8.95 -88.03,-21.4 -82.15,-33.15 -74.68,-43.95 -65.77,-53.6 -55.6,-61.91 -44.36,-68.7 -32.28,-73.86 -19.6,-77.27 -6.57,-78.86 0,-78.74 6.57,-78.86 19.6,-77.27 32.28,-73.86 44.36,-68.7 55.6,-61.91 65.77,-53.6 74.68,-43.95 82.15,-33.15 88.03,-21.4 92.2,-8.95 94.59,3.96 95.14,17.09 94.49,23.62 88.74,16.54 75.68,3.81 60.82,-6.76 44.51,-14.92 27.14,-20.47 9.12,-23.27 -9.12,-23.27 -27.14,-20.47 -44.51,-14.92 -60.82,-6.76 -75.68,3.81 -88.74,16.54 -94.49,23.62

## PETAL-SMALL-2SIDE [mil]
pads (1):
  round 129.91 hole 86.61: 1(0,0)
Top:
  region: -94.49,23.62 -95.14,17.09 -94.59,3.96 -92.2,-8.95 -88.03,-21.4 -82.15,-33.15 -74.68,-43.95 -65.77,-53.6 -55.6,-61.91 -44.36,-68.7 -32.28,-73.86 -19.6,-77.27 -6.57,-78.86 0,-78.74 6.57,-78.86 19.6,-77.27 32.28,-73.86 44.36,-68.7 55.6,-61.91 65.77,-53.6 74.68,-43.95 82.15,-33.15 88.03,-21.4 92.2,-8.95 94.59,3.96 95.14,17.09 94.49,23.62 88.74,16.54 75.68,3.81 60.82,-6.76 44.51,-14.92 27.14,-20.47 9.12,-23.27 -9.12,-23.27 -27.14,-20.47 -44.51,-14.92 -60.82,-6.76 -75.68,3.81 -88.74,16.54 -94.49,23.62
Bottom:
  region: 94.49,23.62 95.14,17.09 94.59,3.96 92.2,-8.95 88.03,-21.4 82.15,-33.15 74.68,-43.95 65.77,-53.6 55.6,-61.91 44.36,-68.7 32.28,-73.86 19.6,-77.27 6.57,-78.86 0,-78.74 -6.57,-78.86 -19.6,-77.27 -32.28,-73.86 -44.36,-68.7 -55.6,-61.91 -65.77,-53.6 -74.68,-43.95 -82.15,-33.15 -88.03,-21.4 -92.2,-8.95 -94.59,3.96 -95.14,17.09 -94.49,23.62 -88.74,16.54 -75.68,3.81 -60.82,-6.76 -44.51,-14.92 -27.14,-20.47 -9.12,-23.27 9.12,-23.27 27.14,-20.47 44.51,-14.92 60.82,-6.76 75.68,3.81 88.74,16.54 94.49,23.62
Top Solder:
  region: -94.49,23.62 -95.14,17.09 -94.59,3.96 -92.2,-8.95 -88.03,-21.4 -82.15,-33.15 -74.68,-43.95 -65.77,-53.6 -55.6,-61.91 -44.36,-68.7 -32.28,-73.86 -19.6,-77.27 -6.57,-78.86 0,-78.74 6.57,-78.86 19.6,-77.27 32.28,-73.86 44.36,-68.7 55.6,-61.91 65.77,-53.6 74.68,-43.95 82.15,-33.15 88.03,-21.4 92.2,-8.95 94.59,3.96 95.14,17.09 94.49,23.62 88.74,16.54 75.68,3.81 60.82,-6.76 44.51,-14.92 27.14,-20.47 9.12,-23.27 -9.12,-23.27 -27.14,-20.47 -44.51,-14.92 -60.82,-6.76 -75.68,3.81 -88.74,16.54 -94.49,23.62
Bottom Solder:
  region: 94.49,23.62 95.14,17.09 94.59,3.96 92.2,-8.95 88.03,-21.4 82.15,-33.15 74.68,-43.95 65.77,-53.6 55.6,-61.91 44.36,-68.7 32.28,-73.86 19.6,-77.27 6.57,-78.86 0,-78.74 -6.57,-78.86 -19.6,-77.27 -32.28,-73.86 -44.36,-68.7 -55.6,-61.91 -65.77,-53.6 -74.68,-43.95 -82.15,-33.15 -88.03,-21.4 -92.2,-8.95 -94.59,3.96 -95.14,17.09 -94.49,23.62 -88.74,16.54 -75.68,3.81 -60.82,-6.76 -44.51,-14.92 -27.14,-20.47 -9.12,-23.27 9.12,-23.27 27.14,-20.47 44.51,-14.92 60.82,-6.76 75.68,3.81 88.74,16.54 94.49,23.62